# Altium integrated library LL4148.IntLib: 1 symbol
Pins are listed as number, name and electrical type; pins without a type are passive.

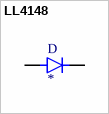
[diagram p0: symbol LL4148]

## LL4148
designator D
Diode Standard 100V 200mA Surface Mount SOD-80; MP: LL4148; MF: ON Semiconductor; Package: SOD-80 Taitron; Availability: Unavailable; Value: *; SnapEDA_Link: https://www.snapeda.com/parts/LL4148/ON%20Semiconductor/view-part/2182678/?ref=snap; Price: None
footprint DIO_LL4148
pins: A, C